# EAGLE library part 1311610030140 (library WL-ICLED)
WL-ICLED Integrated Controller within LED Characteristics Compatible with open source libraries such as FastLED Ready to use with pre-programmed IC 0% to 100% digital dimming via command Individual pixel colour and brightness control Full RGB spectrum Signal control system Applications Signal control system Full-color matrix display Audio and gaming systems Indoor illumination E-mobility <https://www.we-online.com/components/media/o752565v209%20Family-WL-ICLED.jpg> Details see: www.we-online.com/components/products/WL-ICLED <www.we-online.com/catalog/WL-ICLED/?utm_source=eagle_model&utm_medium=description_link&utm_campaign=eisos_eagle> Created by Ella Wu 2024-09-10 2024 (C) Wurth Elektronik
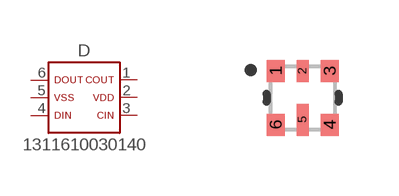
[diagram p1: symbol with the pads of 1311610030140; footprint 1311610030140]

Designator prefix D

## 1311610030140 (DATASHEET-URL: https://www.we-online.com/redexpert/spec/1311610030140?ae; DOMINANT-WAVELENGTH: 470nm & 525nm & 625nm; EMITTING-COLOR: Green & Blue & Red; FPWM: 20kHz; IC-OUTPUT-CURRENT: 6mA; LUMINOUS-INTENSITY: 50mcd & 120mcd & 80mcd; PART-NUMBER: 1311610030140; PEAK-WAVELENGTH: 465nm & 520nm & 630nm; VALUE: 1311610030140; VIEWING-ANGLE: 120°)  [1311610030140]
1  1  pas
2  2  pas
3  3  pas
4  4  pas
5  5  pas
6  6  pas

## Footprint 1311610030140 (pad centres in mm)
smd 0.45 x 0.55: 1 -0.675,0.675; 3 0.675,0.675; 4 0.675,-0.675; 6 -0.675,-0.675
smd 0.3 x 0.55: 2 0,0.675
smd 0.3 x 0.8: 5 0,-0.55